# Altium schematic symbol library LMR16006YQ5DDCRQ1.SchLib: 1 symbol
Pins are listed as number, name and electrical type; pins without a type are passive.

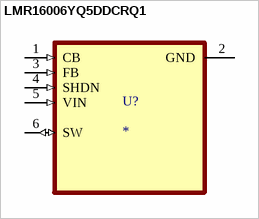
[diagram p0: symbol LMR16006YQ5DDCRQ1]

## LMR16006YQ5DDCRQ1
designator U?
Automotive Qualified SIMPLE SWITCHERÂ® 40V (65V transient), 0.6A Buck Regulator with 28Î¼A IQ; MF: Texas Instruments; MP: LMR16006YQ5DDCRQ1; SnapEDA_Link: https://www.snapeda.com/parts/LMR16006YQ5DDCRQ1/Texas+Instruments/view-part/?ref=snap; Package: SOT-23-THN-6 Texas Instruments; Value: *; Check_prices: https://www.snapeda.com/parts/LMR16006YQ5DDCRQ1/Texas+Instruments/view-part/?ref=eda
footprint SOT95P280X110-6N
pins: 1 CB (in), 2 GND (power), 3 FB (in), 4 SHDN (in), 5 VIN (in), 6 SW (io)